# EAGLE library part AVR_SPI_PROG_5X2 (library SW_Connectors)
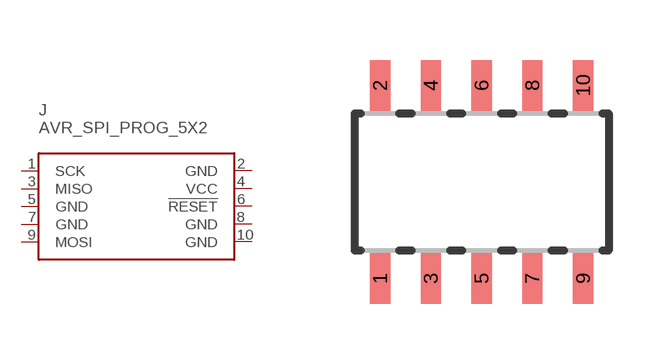
[diagram p2: symbol with the pads of SAMTECH_FTSH-105-01; footprint SAMTECH_FTSH-105-01]

Designator prefix J

## AVR_SPI_PROG_5X2_SMD (CATEGORY: Connectors; DESCRIPTION: Connector Header Surface Mount 10 position 0.050" (1.27mm); MFGS: Sullins Connector Solutions; MPNS: GRPB052VWQS-RC; PACKAGE: SMD; PART_NUMBER: GRPB052VWQS-RC; SW_PART_NUMBER: SW0007804)  [SAMTECH_FTSH-105-01]
1  SCK
2  GND
3  MISO
4  VCC
5  GND
6  !RESET
7  GND
8  GND
9  MOSI
10  GND

## Footprint SAMTECH_FTSH-105-01 (pad centres in mm)
ARM Cortex Debug Connector (10-pin) Specifications: Pin count:10 Pin pitch:0.05" Datasheet referenced for footprint <https://www.samtec.com/ftppub/cpdf/FTSH-1XX-XX-XXX-DV-XXX-MKT.pdf> Example device(s): CORTEX_DEBUG
smd 0.508 x 1.27: 1 -2.54,-2.413; 2 -2.54,2.413; 3 -1.27,-2.413; 4 -1.27,2.413; 5 0,-2.413; 6 0,2.413; 7 1.27,-2.413; 8 1.27,2.413; 9 2.54,-2.413; 10 2.54,2.413